# Altium schematic symbol library SCH - POWER - LINEAR VREG - TI TLV74318PDBVR.Schlib: 1 symbol
Pins are listed as number, name and electrical type; pins without a type are passive.

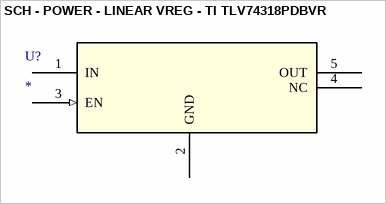
[diagram p0: symbol SCH - POWER - LINEAR VREG - TI TLV74318PDBVR]

## SCH - POWER - LINEAR VREG - TI TLV74318PDBVR
designator U?
footprint DBV0005A_N
pins: 1 IN (power), 2 GND (power), 3 EN (in), 4 NC, 5 OUT (power)